# EAGLE library part POT-STEREO-V (library r)
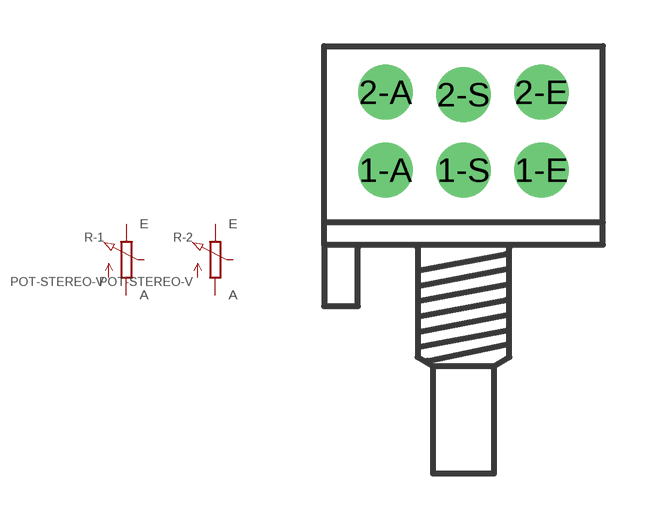
[diagram p0: symbol with the pads of POT-STEREO-2X3; footprint POT-STEREO-2X3]

Designator prefix R; gates -1=POT-V -2=POT-V

## POT-STEREO-V  [POT-STEREO-2X3]
1-A  -1:A  pas
1-E  -1:E  pas
1-S  -1:S  pas
2-A  -2:A  pas
2-E  -2:E  pas
2-S  -2:S  pas

## Footprint POT-STEREO-2X3 (pad centres in mm)
drill 0.9 pad 1.778: 1-A -2.54,-2.54; 1-E 2.54,-2.54; 1-S 0,-2.54; 2-A -2.54,0; 2-E 2.54,0; 2-S 0,-0.08